# Altium schematic symbol library 1SMB2EZ15_R1_00001.SchLib: 1 symbol
Pins are listed as number, name and electrical type; pins without a type are passive.

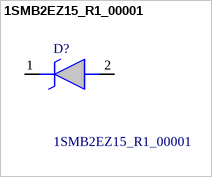
[diagram p0: symbol 1SMB2EZ15_R1_00001]

## 1SMB2EZ15_R1_00001
designator D?
Zener Diode 15 V 2 W +/-5% Surface Mount SMB (DO-214AA); Manufacturer_Name: PANJIT; Geometry.Height: 2.44mm; Mouser Part Number: 241-1SMB2EZ15R100001; Mouser Price/Stock: https://www.mouser.co.uk/ProductDetail/Panjit/1SMB2EZ15_R1_00001?qs=sPbYRqrBIVlScXzJBeNObw%3D%3D; Manufacturer_Part_Number: 1SMB2EZ15_R1_00001; Datasheet Link: https://www.panjit.com.tw/upload/datasheet/1SMB2EZ6.8_SERIES.pdf
footprint 1SMB2EZ15_R1_00001
pins: 1 K, 2 A